# EAGLE library part CNK-L202 (library jack_electromechanical)
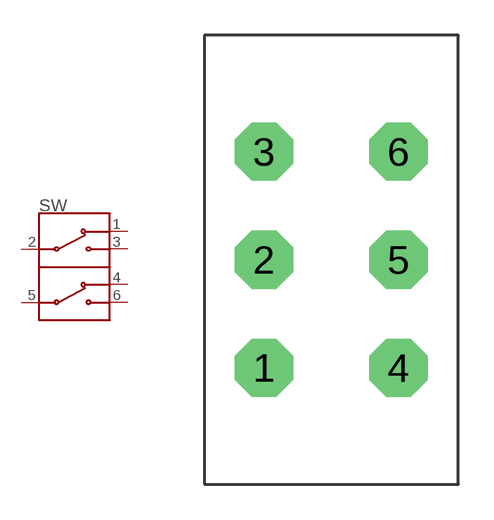
[diagram p0: symbol with the pads of CNK-L202XXXMS02XXX; footprint CNK-L202XXXMS02XXX]

Designator prefix SW

## CNK-L202_MS02  [CNK-L202XXXMS02XXX]
1  O1A
2  I1
3  O1B
4  O2A
5  I2
6  O2B

## Footprint CNK-L202XXXMS02XXX (pad centres in mm)
drill 1.651 octagon: 1 -2.857,-4.597; 2 -2.857,0; 3 -2.857,4.597; 4 2.857,-4.597; 5 2.857,0; 6 2.857,4.597